# EAGLE library part 8X8_LED_MATRIX (library project_2)
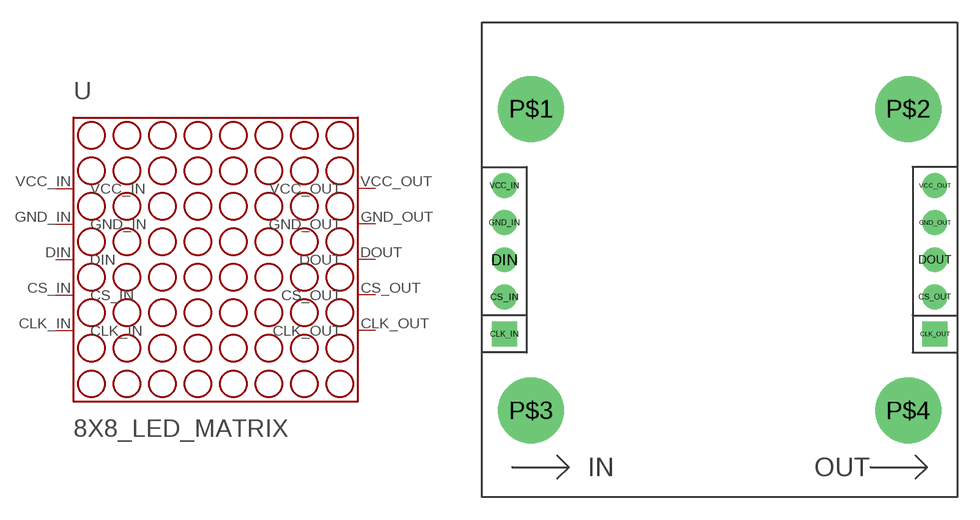
[diagram p3: symbol with the pads of 8X8_LED_MATRIX; footprint 8X8_LED_MATRIX]

Designator prefix U

## 8X8_LED_MATRIX  [8X8_LED_MATRIX]
CLK_IN  CLK_IN
CLK_OUT  CLK_OUT
CS_IN  CS_IN
CS_OUT  CS_OUT
DIN  DIN
DOUT  DOUT
GND_IN  GND_IN
GND_OUT  GND_OUT
VCC_IN  VCC_IN
VCC_OUT  VCC_OUT

## Footprint 8X8_LED_MATRIX (pad centres in mm)
drill 1 pad 1.676 square: CLK_IN -14.5,-5; CLK_OUT 14.5,-5
drill 1 pad 1.676: CS_IN -14.5,-2.5; CS_OUT 14.5,-2.5; DIN -14.5,0; DOUT 14.5,0; GND_IN -14.5,2.5; GND_OUT 14.5,2.5; VCC_IN -14.5,5; VCC_OUT 14.5,5
drill 3.175 pad 4.445: P$1 -12.7,10.16; P$2 12.7,10.16; P$3 -12.7,-10.16; P$4 12.7,-10.16